# EAGLE library part 7PIN-HEADER (library dosenet-pihat)
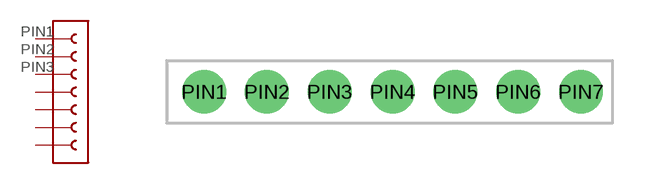
[diagram p2: symbol with the pads of 7PIN-HEADER; footprint 7PIN-HEADER]

Designator prefix -

## 7PIN-HEADER  [7PIN-HEADER]
PIN1  P$1  pas
PIN2  P$2  pas
PIN3  P$3  pas
PIN4  P$4  pas
PIN5  P$5  pas
PIN6  P$6  pas
PIN7  P$7  pas

## Footprint 7PIN-HEADER (pad centres in mm)
drill 1.02 pad 1.778: PIN1 0,0; PIN2 2.54,0; PIN3 5.08,0; PIN4 7.62,0; PIN5 10.16,0; PIN6 12.7,0; PIN7 15.24,0